# EAGLE library part TDFN6 (library R8C)
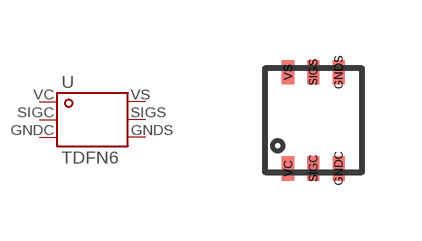
[diagram p21: symbol with the pads of TDFN6; footprint TDFN6]

Designator prefix -

## TDFN6  [TDFN6]
GNDC  3  pas
GNDS  4  pas
SIGC  2  pas
SIGS  5  pas
VC  1  pas
VS  6  pas

## Footprint TDFN6 (pad centres in mm)
Dual In Line Package
smd 0.305 x 0.61: GNDC 0.635,-1.202; GNDS 0.635,1.202; SIGC 0,-1.202; SIGS 0,1.202; VC -0.635,-1.202; VS -0.635,1.202